# Altium footprint library RF Amp Footprint.PcbLib: 1 footprints
Each footprint in its own frame and in the unit in brackets; x right, y up, seen from the top. Pads: shape width x height; smd on the part's side, far side on the other; paste and mask are expansions set on the pad; w line width, h text height; cw(c..) or ccw(c..) is an arc to the next point about the centre after c.
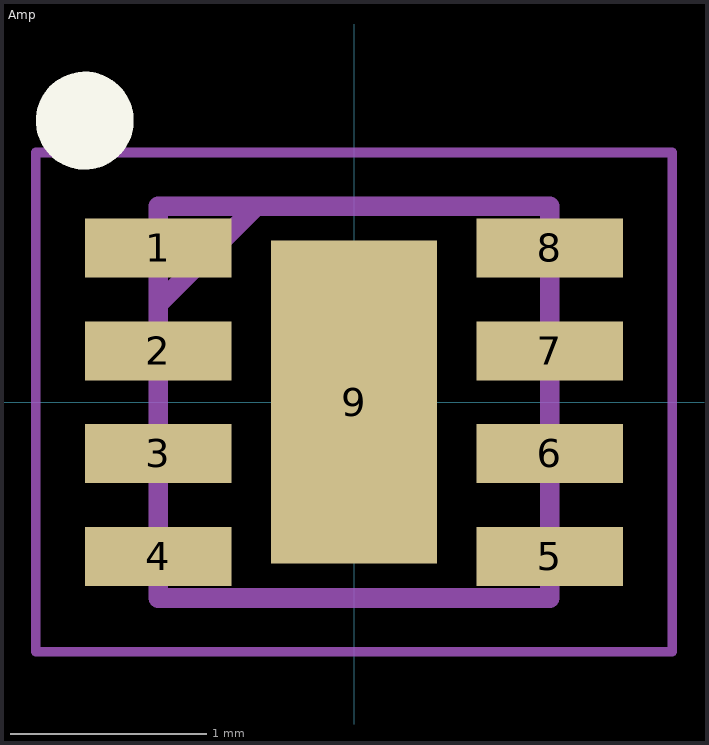
[diagram p0: the footprint, top view; thin cyan lines are the x and y axes]

## Amp [mm]
pads (9):
  rect 0.75x0.3 smd: 1(-1,0.788) 2(-1,0.262) 3(-1,-0.262) 4(-1,-0.788) 5(1,-0.788) 6(1,-0.262) 7(1,0.262) 8(1,0.788)
  rect 0.85x1.65 smd: 9(0,0)
Top Overlay:
  circle w0.25: c-1.375,1.438 r0.125
Top Courtyard:
  lines w0.05: -1.625,-1.275 1.625,-1.275 1.625,1.275 -1.625,1.275 -1.625,-1.275
Top 3D Body:
  lines w0.1: -1,0.5 -0.5,1 ; -1,-1 1,-1 1,1 -1,1 -1,-1
3D body "TQL9093.stp": height 0.95, standoff 0, extent -1.05,-1 1.05,1